# EAGLE library part LT1191 (library IC)
Linear Technology LT1191 Ultra High Speed Operational Amplifier
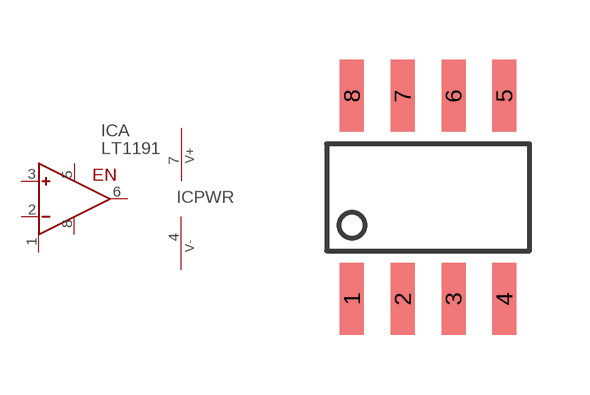
[diagram p129: symbol with the pads of SOIC8; footprint SOIC8]

Designator prefix IC; gates PWR=PWR_V+_V- A=LT1191

## LT1191  [SOIC8]
1  A:BAL0
2  A:IN-  in
3  A:IN+  in
4  PWR:V-  pwr
5  A:EN  in
6  A:OUT  out
7  PWR:V+  pwr
8  A:BAL1

## Footprint SOIC8 (pad centres in mm)
8 pin SOIC 150-mil package
smd 0.6 x 1.8: 1 -1.905,-2.54; 2 -0.635,-2.54; 3 0.635,-2.54; 4 1.905,-2.54; 5 1.905,2.54; 6 0.635,2.54; 7 -0.635,2.54; 8 -1.905,2.54